# Altium schematic symbol library SD_Micro_Card_Conn_Wurth_693071010811_schm.SchLib: 1 symbol
Pins are listed as number, name and electrical type; pins without a type are passive.

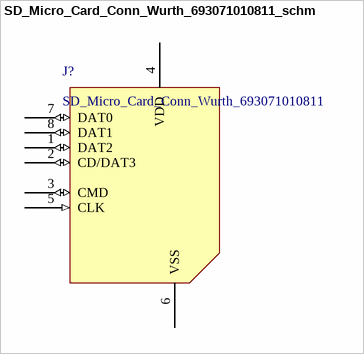
[diagram p0: symbol SD_Micro_Card_Conn_Wurth_693071010811_schm]

## SD_Micro_Card_Conn_Wurth_693071010811_schm
designator J?, comment SD_Micro_Card_Conn_Wurth_693071010811
pins: 1 DAT2 (io), 2 CD/DAT3 (io), 3 CMD (io), 4 VDD (power), 5 CLK (in), 6 VSS (power), 7 DAT0 (io), 8 DAT1 (io)